# Altium footprint library Edge_Card_Ucc28951.PcbLib: 16 footprints
Each footprint in its own frame and in the unit in brackets; x right, y up, seen from the top. Pads: shape width x height; smd on the part's side, far side on the other; paste and mask are expansions set on the pad; w line width, h text height; cw(c..) or ccw(c..) is an arc to the next point about the centre after c.
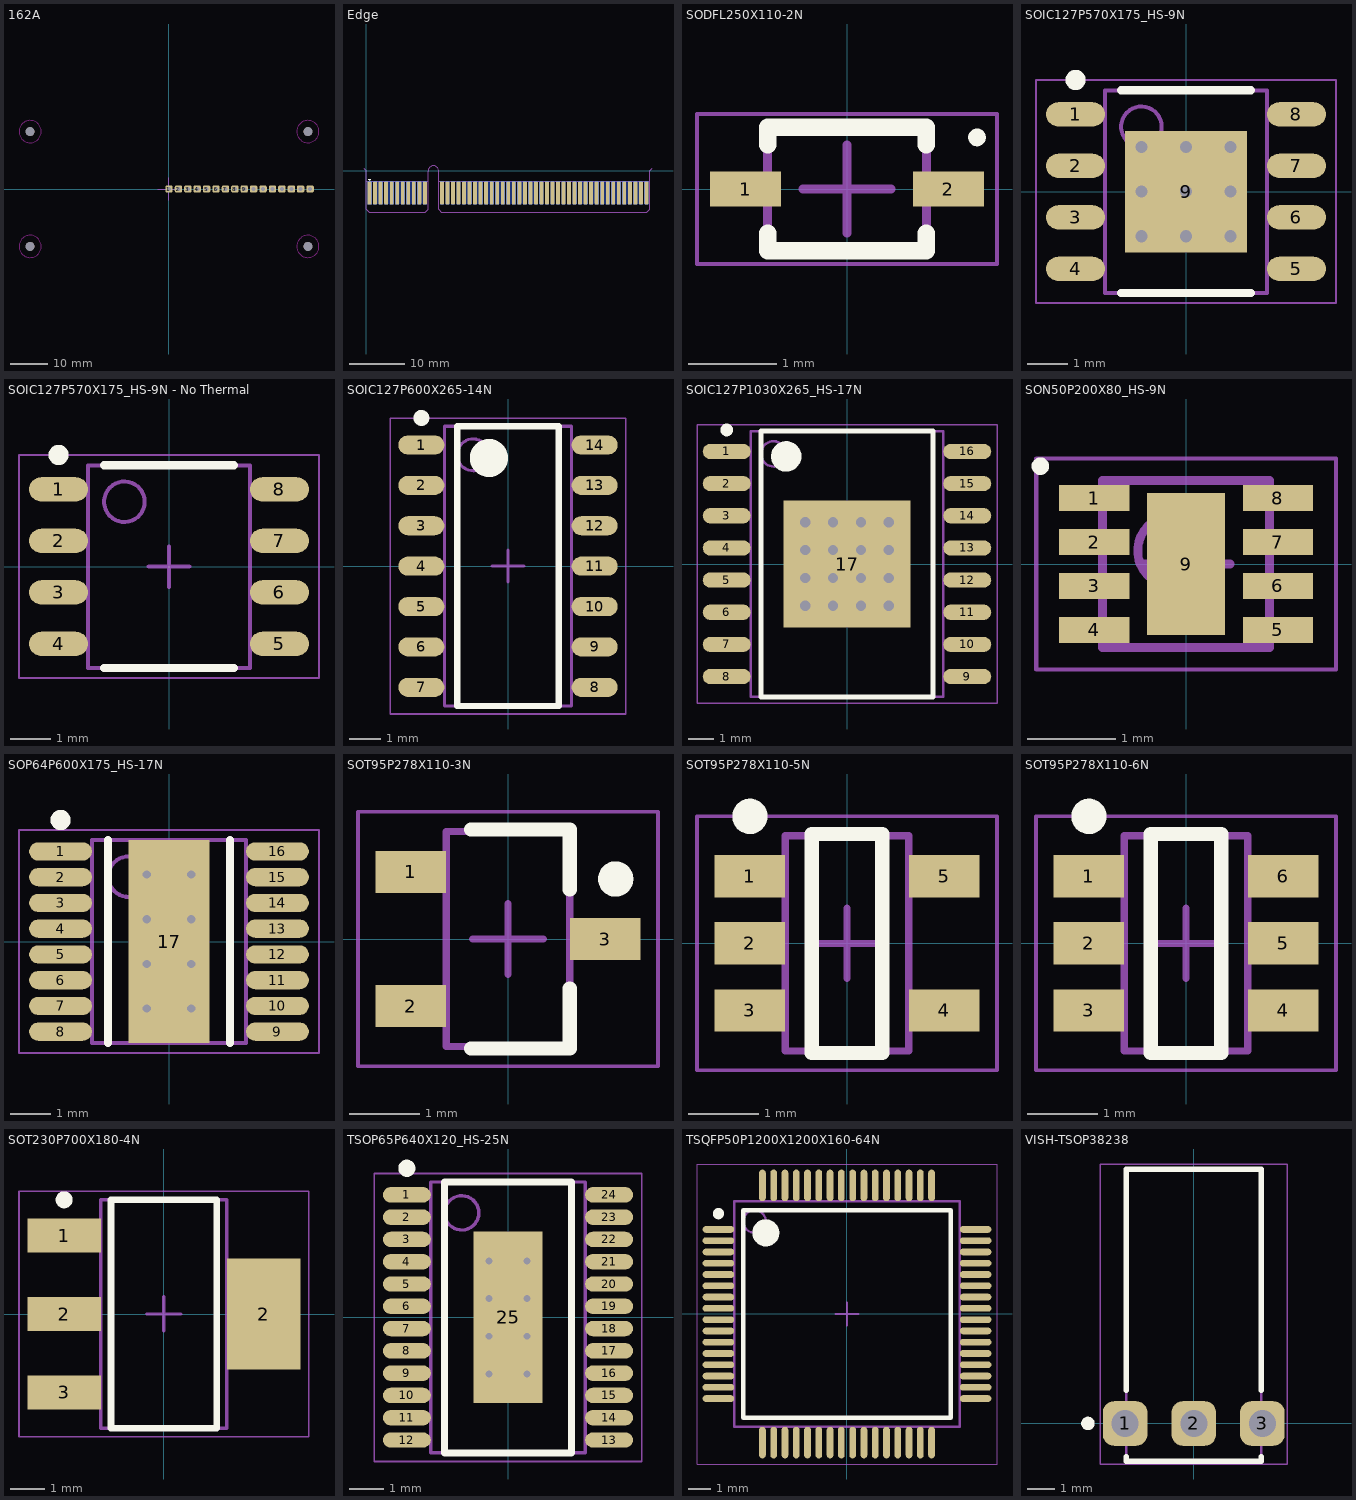
[diagram p0: the footprints below, top view; thin cyan lines are the x and y axes]

## 162A [mm]
pads (20):
  rrect50% 2x2 hole 1.1: 1(0,0) 2(2.54,0) 3(5.08,0) 4(7.62,0) 5(10.16,0) 6(12.7,0) 7(15.24,0) 8(17.78,0) 9(20.32,0) 10(22.86,0) 11(25.4,0) 12(27.94,0) 13(30.48,0) 14(33.02,0) 15(35.56,0) 16(38.1,0)
  round 2.3 hole 2.5 unplated: M1(-37.5,15.5) M2(37.5,15.5) M3(-37.5,-15.5) M4(37.5,-15.5)
Keep-Out Layer:
  circle w0.2: c-37.5,15.5 r3
  circle w0.2: c-37.5,-15.5 r3
  circle w0.2: c37.5,-15.5 r3
  circle w0.2: c37.5,15.5 r3
Mechanical 15:
  lines w0.254: -3,0 3,0 ; 0,-3 0,3
3D body "LCD.x_t": height 25.2, standoff 0.3, extent -40.908,-18.762 40.964,18.857

## Edge [mm]
pads (98):
  rect 0.7x4.2 smd: A1(0.6,-4)
  rrect50% 0.7x4.2 smd: A2(1.6,-4) A3(2.6,-4) A4(3.6,-4) A5(4.6,-4) A6(5.6,-4) A7(6.6,-4) A8(7.6,-4) A9(8.6,-4) A10(9.6,-4) A11(10.6,-4) A12(13.7,-4) A13(14.7,-4) A14(15.7,-4) A15(16.7,-4) A16(17.7,-4) A17(18.7,-4) A18(19.7,-4) A19(20.7,-4) A20(21.7,-4) A21(22.7,-4) A22(23.7,-4) A23(24.7,-4) A24(25.7,-4) A25(26.7,-4) A26(27.7,-4) A27(28.7,-4) A28(29.7,-4) A29(30.7,-4) A30(31.7,-4) A31(32.7,-4) A32(33.7,-4) A33(34.7,-4) A34(35.7,-4) A35(36.7,-4) A36(37.7,-4) A37(38.7,-4) A38(39.7,-4) A39(40.7,-4) A40(41.7,-4) A41(42.7,-4) A42(43.7,-4) A43(44.7,-4) A44(45.7,-4) A45(46.7,-4) A46(47.7,-4) A47(48.7,-4) A48(49.7,-4) A49(50.7,-4)
  rect 0.7x4.2 smd far side: B1(0.6,-4)
  rrect50% 0.7x4.2 smd far side: B2(1.6,-4) B3(2.6,-4) B4(3.6,-4) B5(4.6,-4) B6(5.6,-4) B7(6.6,-4) B8(7.6,-4) B9(8.6,-4) B10(9.6,-4) B11(10.6,-4) B12(13.7,-4) B13(14.7,-4) B14(15.7,-4) B15(16.7,-4) B16(17.7,-4) B17(18.7,-4) B18(19.7,-4) B19(20.7,-4) B20(21.7,-4) B21(22.7,-4) B22(23.7,-4) B23(24.7,-4) B24(25.7,-4) B25(26.7,-4) B26(27.7,-4) B27(28.7,-4) B28(29.7,-4) B29(30.7,-4) B30(31.7,-4) B31(32.7,-4) B32(33.7,-4) B33(34.7,-4) B34(35.7,-4) B35(36.7,-4) B36(37.7,-4) B37(38.7,-4) B38(39.7,-4) B39(40.7,-4) B40(41.7,-4) B41(42.7,-4) B42(43.7,-4) B43(44.7,-4) B44(45.7,-4) B45(46.7,-4) B46(47.7,-4) B47(48.7,-4) B48(49.7,-4) B49(50.7,-4)
Top Overlay:
  lines w0.05: 0.4,-1.5 0.8,-1.5 ; 0.4,-1.5 0.6,-1.7 ; 0.4,-1.5 0.8,-1.5 ; 0.4,-1.5 0.6,-1.7 ; 0.6,-1.7 0.8,-1.5 ; 0.6,-1.7 0.6,-1.7 ; 0.6,-1.7 0.8,-1.5 ; 0.6,-1.7 0.6,-1.7
Mechanical 15:
  lines w0.013: -0.5,0.5 0,0 0,-7 0.5,-7.5 10.7,-7.5 11.2,-7 11.2,-0.05 cw(c12.15,-0.05) 13.1,-0.05 13.1,-7 13.6,-7.5 50.8,-7.5 51.3,-7 51.3,0 51.8,0.5 ; 0,-1.9 11.2,-1.9 ; 13.1,-1.9 51.3,-1.9

## SODFL250X110-2N [mm] "SODFL, 2-Leads, Body 1.30x2.50mm, IPC Medium Density"
height 1.1
pads (2):
  rect 0.8x0.4 smd: 1(-1.15,0) 2(1.15,0)
Top Overlay:
  circle w0.1: c1.473,0.584 r0.05
  lines w0.2: -0.9,-0.5 -0.9,-0.7 0.9,-0.7 0.9,-0.5 ; -0.9,0.5 -0.9,0.7 0.9,0.7 0.9,0.5
Mechanical 13:
  lines w0.1: -0.9,-0.7 0.9,-0.7 0.9,0.7 -0.9,0.7 -0.9,-0.7
Mechanical 15:
  lines w0.05: -1.7,-0.85 1.7,-0.85 1.7,0.85 -1.7,0.85 -1.7,-0.85
  lines w0.1: -0.5,0 0.5,0 ; 0,-0.5 0,0.5
3D body "SODFL250X110-2N.step": height 1.1, standoff 0, extent -1.25,-0.7 1.25,0.7

## SOIC127P570X175_HS-9N [mm] "SOIC, 8-Leads, Body 4.91x3.90mm, Pitch 1.27mm, Thermal Pad 3.00x3.00mm, IPC Medium Density"
height 1.75
pads (9):
  oval 1.45x0.6 smd: 1(-2.725,1.905) 2(-2.725,0.635) 3(-2.725,-0.635) 4(-2.725,-1.905) 5(2.725,-1.905) 6(2.725,-0.635) 7(2.725,0.635) 8(2.725,1.905)
  rect 3x3 smd: 9(0,0)
via -1.1,1.1 diameter 0.6 hole 0.3
via 0,1.1 diameter 0.6 hole 0.3
via 1.1,1.1 diameter 0.6 hole 0.3
via -1.1,0 diameter 0.6 hole 0.3
via 0,0 diameter 0.6 hole 0.3
via 1.1,0 diameter 0.6 hole 0.3
via -1.1,-1.1 diameter 0.6 hole 0.3
via 0,-1.1 diameter 0.6 hole 0.3
via 1.1,-1.1 diameter 0.6 hole 0.3
Top Overlay:
  circle w0.25: c-2.725,2.755 r0.125
  lines w0.2: -1.6,-2.5 1.6,-2.5 ; -1.6,2.5 1.6,2.5
Mechanical 1:
  text "'.Designator'" at -5.334,-4.493 h1
Mechanical 13:
  circle w0.1: c-1.1,1.6 r0.5
  lines w0.1: -2,-2.5 -2,2.5 2,2.5 2,-2.5 -2,-2.5
Mechanical 15:
  lines w0.05: -3.7,-2.75 -3.7,2.75 3.7,2.75 3.7,-2.75 -3.7,-2.75
  lines w0.1: -0.5,0 0.5,0 ; 0,-0.5 0,0.5
3D body "SOIC127P570X175_HS-9N.step": height 1.75, standoff 0.02, extent -2.767,-2.5 2.767,2.5

## SOIC127P570X175_HS-9N - No Thermal [mm] "SOIC, 8-Leads, Body 4.91x3.90mm, Pitch 1.27mm, Thermal Pad 3.00x3.00mm, IPC Medium Density"
height 1.75
pads (8):
  oval 1.45x0.6 smd: 1(-2.725,1.905) 2(-2.725,0.635) 3(-2.725,-0.635) 4(-2.725,-1.905) 5(2.725,-1.905) 6(2.725,-0.635) 7(2.725,0.635) 8(2.725,1.905)
Top Overlay:
  circle w0.25: c-2.725,2.755 r0.125
  lines w0.2: -1.6,-2.5 1.6,-2.5 ; -1.6,2.5 1.6,2.5
Mechanical 1:
  text "'.Designator'" at -5.334,-4.493 h1
Mechanical 13:
  circle w0.1: c-1.1,1.6 r0.5
  lines w0.1: -2,-2.5 2,-2.5 2,2.5 -2,2.5 -2,-2.5
Mechanical 15:
  lines w0.05: -3.7,-2.75 3.7,-2.75 3.7,2.75 -3.7,2.75 -3.7,-2.75
  lines w0.1: -0.5,0 0.5,0 ; 0,-0.5 0,0.5
3D body "SOIC127P570X175_HS-9N.step": height 1.75, standoff 0.02, extent -2.767,-2.5 2.767,2.5

## SOIC127P600X265-14N [mm] "SOIC, 14-Leads, Body 8.65x3.90mm, Pitch 1.27mm, IPC Medium Density"
height 2.65
pads (14):
  oval 1.45x0.6 smd: 1(-2.725,3.81) 2(-2.725,2.54) 3(-2.725,1.27) 4(-2.725,0) 5(-2.725,-1.27) 6(-2.725,-2.54) 7(-2.725,-3.81) 8(2.725,-3.81) 9(2.725,-2.54) 10(2.725,-1.27) 11(2.725,0) 12(2.725,1.27) 13(2.725,2.54) 14(2.725,3.81)
Top Overlay:
  circle w0.6: c-0.6,3.4 r0.3
  circle w0.25: c-2.725,4.66 r0.125
  lines w0.2: -1.6,-4.4 1.6,-4.4 1.6,4.4 -1.6,4.4 -1.6,-4.4
Mechanical 13:
  circle w0.1: c-1.1,3.5 r0.5
  lines w0.1: -2,-4.4 2,-4.4 2,4.4 -2,4.4 -2,-4.4
Mechanical 15:
  lines w0.05: -3.7,-4.65 3.7,-4.65 3.7,4.65 -3.7,4.65 -3.7,-4.65
  lines w0.1: -0.5,0 0.5,0 ; 0,-0.5 0,0.5
3D body "SOIC127P600X265-14N.step": height 2.65, standoff 0, extent -3,-4.4 3,4.4

## SOIC127P1030X265_HS-17N [mm] "SOIC, 16-Leads, Body 10.30x7.50mm, Pitch 1.27mm, Thermal Pad 5.00x5.00mm, IPC Medium Density"
height 2.65
pads (17):
  oval 1.9x0.6 smd: 1(-4.75,4.445) 2(-4.75,3.175) 3(-4.75,1.905) 4(-4.75,0.635) 5(-4.75,-0.635) 6(-4.75,-1.905) 7(-4.75,-3.175) 8(-4.75,-4.445) 9(4.75,-4.445) 10(4.75,-3.175) 11(4.75,-1.905) 12(4.75,-0.635) 13(4.75,0.635) 14(4.75,1.905) 15(4.75,3.175) 16(4.75,4.445)
  rect 5x5 smd: 17(0,0)
via -1.65,1.65 diameter 0.8 hole 0.4
via -0.55,1.65 diameter 0.8 hole 0.4
via 0.55,1.65 diameter 0.8 hole 0.4
via 1.65,1.65 diameter 0.8 hole 0.4
via -1.65,0.55 diameter 0.8 hole 0.4
via -0.55,0.55 diameter 0.8 hole 0.4
via 0.55,0.55 diameter 0.8 hole 0.4
via 1.65,0.55 diameter 0.8 hole 0.4
via -1.65,-0.55 diameter 0.8 hole 0.4
via -0.55,-0.55 diameter 0.8 hole 0.4
via 0.55,-0.55 diameter 0.8 hole 0.4
via 1.65,-0.55 diameter 0.8 hole 0.4
via -1.65,-1.65 diameter 0.8 hole 0.4
via -0.55,-1.65 diameter 0.8 hole 0.4
via 0.55,-1.65 diameter 0.8 hole 0.4
via 1.65,-1.65 diameter 0.8 hole 0.4
Top Overlay:
  circle w0.25: c-4.75,5.295 r0.125
  circle w0.6: c-2.4,4.25 r0.3
  lines w0.2: -3.4,-5.25 -3.4,5.25 3.4,5.25 3.4,-5.25 -3.4,-5.25
Mechanical 13:
  circle w0.1: c-2.9,4.35 r0.5
  lines w0.1: -3.8,-5.25 -3.8,5.25 3.8,5.25 3.8,-5.25 -3.8,-5.25
Mechanical 15:
  lines w0.05: -5.925,-5.5 -5.925,5.5 5.925,5.5 5.925,-5.5 -5.925,-5.5
  lines w0.1: -0.5,0 0.5,0 ; 0,-0.5 0,0.5
3D body "SOIC127P1030X265_HS-17N.step": height 2.65, standoff 0, extent -5.15,-5.25 5.15,5.25

## SON50P200X80_HS-9N [mm] "SON, 8-Leads, Body 2.00x2.00mm, Pitch 0.50mm, Thermal Pad 1.61x0.89mm, IPC Medium Density"
height 0.8
pads (9):
  rect 0.8x0.3 smd: 1(-1.045,0.75) 2(-1.045,0.25) 3(-1.045,-0.25) 4(-1.045,-0.75) 5(1.045,-0.75) 6(1.045,-0.25) 7(1.045,0.25) 8(1.045,0.75)
  rect 0.89x1.61 smd: 9(0,0)
Top Overlay:
  circle w0.1: c-1.657,1.112 r0.05
Mechanical 13:
  circle w0.1: c-0.15,0.15 r0.4
  lines w0.1: -0.95,-0.95 -0.95,0.95 0.95,0.95 0.95,-0.95 -0.95,-0.95
Mechanical 15:
  lines w0.05: -1.705,-1.2 -1.705,1.2 1.705,1.2 1.705,-1.2 -1.705,-1.2
  lines w0.1: -0.5,0 0.5,0 ; 0,-0.5 0,0.5
3D body "SON50P200X80_HS-9N.step": height 0.8, standoff 0, extent -1.05,-0.95 1.05,0.95

## SOP64P600X175_HS-17N [mm] "SOP, 16-Leads, Body 4.91x3.90mm, Pitch 0.64mm, Thermal Pad 5.00x2.00mm, IPC Medium Density"
height 1.75
pads (17):
  oval 1.55x0.45 smd: 1(-2.675,2.222) 2(-2.675,1.587) 3(-2.675,0.953) 4(-2.675,0.318) 5(-2.675,-0.318) 6(-2.675,-0.953) 7(-2.675,-1.587) 8(-2.675,-2.222) 9(2.675,-2.222) 10(2.675,-1.587) 11(2.675,-0.953) 12(2.675,-0.318) 13(2.675,0.318) 14(2.675,0.953) 15(2.675,1.587) 16(2.675,2.222)
  rect 2x5 smd: 17(0,0)
via -0.55,1.65 diameter 0.5 hole 0.2
via 0.55,1.65 diameter 0.5 hole 0.2
via -0.55,0.55 diameter 0.5 hole 0.2
via 0.55,0.55 diameter 0.5 hole 0.2
via -0.55,-0.55 diameter 0.5 hole 0.2
via 0.55,-0.55 diameter 0.5 hole 0.2
via -0.55,-1.65 diameter 0.5 hole 0.2
via 0.55,-1.65 diameter 0.5 hole 0.2
Top Overlay:
  circle w0.25: c-2.675,2.997 r0.125
  lines w0.2: -1.5,-2.5 -1.5,2.5 ; 1.5,-2.5 1.5,2.5
Mechanical 13:
  circle w0.1: c-1,1.6 r0.5
  lines w0.1: -1.9,-2.5 -1.9,2.5 1.9,2.5 1.9,-2.5 -1.9,-2.5
Mechanical 15:
  lines w0.05: -3.7,-2.75 -3.7,2.75 3.7,2.75 3.7,-2.75 -3.7,-2.75
  lines w0.1: -0.5,0 0.5,0 ; 0,-0.5 0,0.5
3D body "SOP64P600X175_HS-17N.step": height 1.75, standoff 0, extent -2.997,-2.5 2.997,2.5

## SOT95P278X110-3N [mm] "SOT23, 3-Leads, Body 2.90x2.78mm, Pitch 0.95mm, IPC Medium Density"
height 1.1
pads (3):
  rect 1x0.6 smd: 1(-1.375,0.95) 2(-1.375,-0.95) 3(1.375,0)
Top Overlay:
  circle w0.25: c1.525,0.85 r0.125
  lines w0.2: -0.525,-1.55 0.875,-1.55 0.875,-0.7 ; -0.525,1.55 0.875,1.55 0.875,0.7
Mechanical 13:
  lines w0.1: -0.875,-1.525 0.875,-1.525 0.875,1.525 -0.875,1.525 -0.875,-1.525
Mechanical 15:
  lines w0.05: -2.125,-1.8 2.125,-1.8 2.125,1.8 -2.125,1.8 -2.125,-1.8
  lines w0.1: -0.5,0 0.5,0 ; 0,-0.5 0,0.5
3D body "SOT95P278X110-3N.step": height 1.1, standoff 0, extent -1.525,-1.525 1.525,1.525

## SOT95P278X110-5N [mm] "SOT23, 5-Leads, Body 2.90x2.78mm, Pitch 0.95mm, IPC Medium Density"
height 1.1
pads (5):
  rect 1x0.6 smd: 1(-1.375,0.95) 2(-1.375,0) 3(-1.375,-0.95) 4(1.375,-0.95) 5(1.375,0.95)
Top Overlay:
  circle w0.25: c-1.375,1.8 r0.125
  lines w0.2: -0.5,-1.55 -0.5,1.55 0.5,1.55 0.5,-1.55 -0.5,-1.55
Mechanical 13:
  lines w0.1: -0.875,-1.525 0.875,-1.525 0.875,1.525 -0.875,1.525 -0.875,-1.525
Mechanical 15:
  lines w0.05: -2.125,-1.8 2.125,-1.8 2.125,1.8 -2.125,1.8 -2.125,-1.8
  lines w0.1: -0.5,0 0.5,0 ; 0,-0.5 0,0.5
3D body "SOT95P278X110-5N.step": height 1.1, standoff 0, extent -1.525,-1.525 1.525,1.525

## SOT95P278X110-6N [mm] "SOT23, 6-Leads, Body 2.90x2.78mm, Pitch 0.95mm, IPC Medium Density"
height 1.1
pads (6):
  rect 1x0.6 smd: 1(-1.375,0.95) 2(-1.375,0) 3(-1.375,-0.95) 4(1.375,-0.95) 5(1.375,0) 6(1.375,0.95)
Top Overlay:
  circle w0.25: c-1.375,1.8 r0.125
  lines w0.2: -0.5,-1.55 0.5,-1.55 0.5,1.55 -0.5,1.55 -0.5,-1.55
Mechanical 13:
  lines w0.1: -0.875,-1.525 -0.875,1.525 0.875,1.525 0.875,-1.525 -0.875,-1.525
Mechanical 15:
  lines w0.05: -2.125,-1.8 -2.125,1.8 2.125,1.8 2.125,-1.8 -2.125,-1.8
  lines w0.1: -0.5,0 0.5,0 ; 0,-0.5 0,0.5
3D body "SOT95P278X110-6N.step": height 1.1, standoff 0, extent -1.525,-1.525 1.525,1.525

## SOT230P700X180-4N [mm] "SOT223, 4-Leads, Body 6.50x7.00mm (avg), Pitch 2.30mm, IPC Medium Density"
height 1.8
pads (4):
  rect 2.15x1 smd: 1(-2.925,2.3) 2(-2.925,0) 3(-2.925,-2.3)
  rect 2.15x3.25 smd: 2(2.925,0)
Top Overlay:
  circle w0.25: c-2.925,3.35 r0.125
  lines w0.2: -1.55,-3.35 1.55,-3.35 1.55,3.35 -1.55,3.35 -1.55,-3.35
Mechanical 13:
  lines w0.1: -1.85,-3.35 1.85,-3.35 1.85,3.35 -1.85,3.35 -1.85,-3.35
Mechanical 15:
  lines w0.05: -4.25,-3.6 4.25,-3.6 4.25,3.6 -4.25,3.6 -4.25,-3.6
  lines w0.1: -0.5,0 0.5,0 ; 0,-0.5 0,0.5
3D body "SOT230P700X180-4N.step": height 1.8, standoff 0, extent -3.5,-3.35 3.5,3.35

## TSOP65P640X120_HS-25N [mm] "TSOP, 24-Leads, Body 7.80x4.40mm, Pitch 0.65mm, Thermal Pad 5.00x2.00mm, IPC Medium Density"
height 1.2
pads (25):
  oval 1.4x0.45 smd: 1(-2.95,3.575) 2(-2.95,2.925) 3(-2.95,2.275) 4(-2.95,1.625) 5(-2.95,0.975) 6(-2.95,0.325) 7(-2.95,-0.325) 8(-2.95,-0.975) 9(-2.95,-1.625) 10(-2.95,-2.275) 11(-2.95,-2.925) 12(-2.95,-3.575) 13(2.95,-3.575) 14(2.95,-2.925) 15(2.95,-2.275) 16(2.95,-1.625) 17(2.95,-0.975) 18(2.95,-0.325) 19(2.95,0.325) 20(2.95,0.975) 21(2.95,1.625) 22(2.95,2.275) 23(2.95,2.925) 24(2.95,3.575)
  rect 2x5 smd: 25(0,0)
via 0.55,-1.65 diameter 0.5 hole 0.2
via -0.55,-1.65 diameter 0.5 hole 0.2
via 0.55,-0.55 diameter 0.5 hole 0.2
via -0.55,-0.55 diameter 0.5 hole 0.2
via 0.55,0.55 diameter 0.5 hole 0.2
via -0.55,0.55 diameter 0.5 hole 0.2
via 0.55,1.65 diameter 0.5 hole 0.2
via -0.55,1.65 diameter 0.5 hole 0.2
Top Overlay:
  circle w0.25: c-2.95,4.35 r0.125
  lines w0.2: -1.85,-3.95 1.85,-3.95 1.85,3.95 -1.85,3.95 -1.85,-3.95
Mechanical 13:
  circle w0.1: c-1.35,3.05 r0.5
  lines w0.1: -2.25,-3.95 2.25,-3.95 2.25,3.95 -2.25,3.95 -2.25,-3.95
Mechanical 15:
  lines w0.05: -3.9,-4.2 3.9,-4.2 3.9,4.2 -3.9,4.2 -3.9,-4.2
  lines w0.1: -0.5,0 0.5,0 ; 0,-0.5 0,0.5
3D body "TSOP65P640X120_HS-25N.step": height 1.2, standoff 0, extent -3.2,-3.95 3.2,3.95

## TSQFP50P1200X1200X160-64N [mm] "TSQFP, 64-Leads, Body 10.00x10.00mm, Pitch 0.50mm, IPC Medium Density"
height 1.6
pads (64):
  oval 1.4x0.3 smd: 1(-5.7,3.75) 2(-5.7,3.25) 3(-5.7,2.75) 4(-5.7,2.25) 5(-5.7,1.75) 6(-5.7,1.25) 7(-5.7,0.75) 8(-5.7,0.25) 9(-5.7,-0.25) 10(-5.7,-0.75) 11(-5.7,-1.25) 12(-5.7,-1.75) 13(-5.7,-2.25) 14(-5.7,-2.75) 15(-5.7,-3.25) 16(-5.7,-3.75) 33(5.7,-3.75) 34(5.7,-3.25) 35(5.7,-2.75) 36(5.7,-2.25) 37(5.7,-1.75) 38(5.7,-1.25) 39(5.7,-0.75) 40(5.7,-0.25) 41(5.7,0.25) 42(5.7,0.75) 43(5.7,1.25) 44(5.7,1.75) 45(5.7,2.25) 46(5.7,2.75) 47(5.7,3.25) 48(5.7,3.75)
  oval 0.3x1.4 smd: 17(-3.75,-5.7) 18(-3.25,-5.7) 19(-2.75,-5.7) 20(-2.25,-5.7) 21(-1.75,-5.7) 22(-1.25,-5.7) 23(-0.75,-5.7) 24(-0.25,-5.7) 25(0.25,-5.7) 26(0.75,-5.7) 27(1.25,-5.7) 28(1.75,-5.7) 29(2.25,-5.7) 30(2.75,-5.7) 31(3.25,-5.7) 32(3.75,-5.7) 49(3.75,5.7) 50(3.25,5.7) 51(2.75,5.7) 52(2.25,5.7) 53(1.75,5.7) 54(1.25,5.7) 55(0.75,5.7) 56(0.25,5.7) 57(-0.25,5.7) 58(-0.75,5.7) 59(-1.25,5.7) 60(-1.75,5.7) 61(-2.25,5.7) 62(-2.75,5.7) 63(-3.25,5.7) 64(-3.75,5.7)
Top Overlay:
  circle w0.6: c-3.6,3.6 r0.3
  circle w0.25: c-5.7,4.45 r0.125
  lines w0.2: -4.6,-4.6 4.6,-4.6 4.6,4.6 -4.6,4.6 -4.6,-4.6
Mechanical 13:
  circle w0.1: c-4.1,4.1 r0.5
  lines w0.1: -5,-5 5,-5 5,5 -5,5 -5,-5
Mechanical 15:
  lines w0.05: -6.65,-6.65 6.65,-6.65 6.65,6.65 -6.65,6.65 -6.65,-6.65
  lines w0.1: -0.5,0 0.5,0 ; 0,-0.5 0,0.5
3D body "TSQFP50P1200X1200X160-64N.step": height 1.6, standoff 0, extent -6,-6 6,6

## VISH-TSOP38238 [mm] "TH, 3-Leads, Body 5.00x4.80mm, Pitch 2.54mm"
height 8.55
pads (3):
  rrect50% 1.65x1.65 hole 1: 1(-2.54,0) 2(0,0) 3(2.54,0)
Top Overlay:
  circle w0.25: c-3.915,0 r0.125
  lines w0.2: -2.5,-1.4 -2.5,-1.225 ; -2.5,1.225 -2.5,9.4 2.5,9.4 2.5,1.225 ; -2.5,-1.4 -2,-1.4 ; 2.5,-1.225 2.5,-1.4 2,-1.4 -2,-1.4 ; -2,-1.4 -2,-1.4
Mechanical 13:
  lines w0.1: -2,-1.4 -2.5,-1.4 -2.5,9.4 2.5,9.4 2.5,-1.4 2,-1.4 -2,-1.4 ; -2,-1.4 -2,-1.4
Mechanical 15:
  lines w0.05: -3.465,-1.5 3.465,-1.5 3.465,9.6 -3.465,9.6 -3.465,-1.5
  lines w0.1: -0.5,0 0.5,0 ; 0,-0.5 0,0.5
3D body "82684Minicast_SB.stp": height 5.4, standoff -19, extent -2.89,-0.15 2.89,9.5